# EAGLE library part AD7788 (library ld-components)
AD7788/AD7789 Low Power, 16-/24-Bit, Sigma-Delta ADC
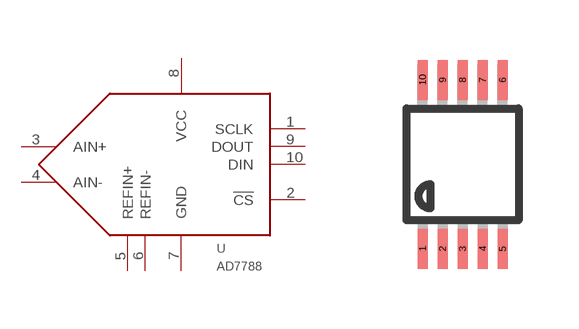
[diagram p10: symbol with the pads of MSOP10; footprint MSOP10]

Designator prefix -

## AD7788  [MSOP10]
1  SCLK  in
2  !CS  in
3  AIN+  hiz
4  AIN-  hiz
5  REFIN+  hiz
6  REFIN-  hiz
7  GND  pwr
8  VCC  pwr
9  DOUT  in
10  DIN  out

## Footprint MSOP10 (pad centres in mm)
10-Lead Mini Small Outline Package [MSOP]
smd 0.25 x 1: 1 -1,-2.113; 2 -0.5,-2.113; 3 0,-2.113; 4 0.5,-2.113; 5 1,-2.113; 6 1,2.113; 7 0.5,2.113; 8 0,2.113; 9 -0.5,2.113; 10 -1,2.113